# Altium schematic symbol library 2021-01-14_16-36-10.SchLib: 2 symbols
Pins are listed as number, name and electrical type; pins without a type are passive.

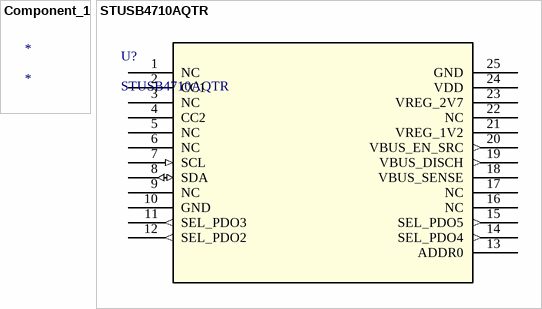
[diagram p0: symbols Component_1 to STUSB4710AQTR]

## Component_1
designator *

## STUSB4710AQTR
designator U?
No Description Available; Vendor: STMicroelectronics; Built_By: EMA_Cory; SourceLibrary: Add_to_database_2020-12-21; Datasheet: https://www.st.com/resource/en/datasheet/stusb4710.pdf; Manufacturer_Part_Number: STUSB4710AQTR; Copyright: Copyright (C) 2018 Accelerated Designs. All rights reserved; RefDes: RefDes; Type: DEV
footprint QFN24EP_4X4_STM
pins: 1 NC, 2 CC1, 3 NC, 4 CC2, 5 NC, 6 NC, 7 SCL (in), 8 SDA (io), 9 NC, 10 GND, 11 SEL_PDO3 (out), 12 SEL_PDO2 (out), 13 ADDR0, 14 SEL_PDO4 (out), 15 SEL_PDO5 (out), 16 NC, 17 NC, 18 VBUS_SENSE, 19 VBUS_DISCH (out), 20 VBUS_EN_SRC (out), 21 VREG_1V2, 22 NC, 23 VREG_2V7, 24 VDD (power), 25 GND